# Altium footprint library 3G30A.PcbLib: 1 footprints
Each footprint in its own frame and in the unit in brackets; x right, y up, seen from the top. Pads: shape width x height; smd on the part's side, far side on the other; paste and mask are expansions set on the pad; w line width, h text height; cw(c..) or ccw(c..) is an arc to the next point about the centre after c.
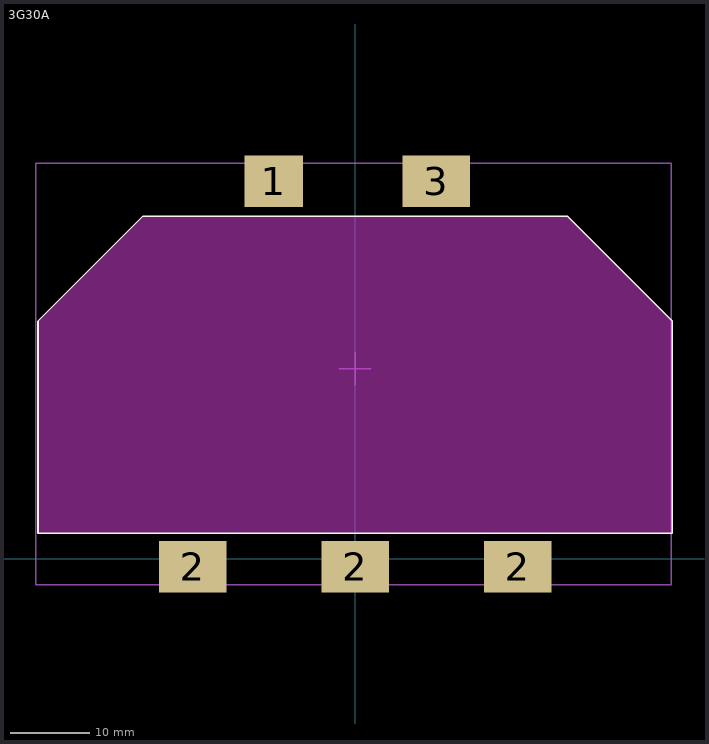
[diagram p0: the footprint, top view; thin cyan lines are the x and y axes]

## 3G30A [mm]
pads (5):
  rect 7.35x6.5 smd: 1(-10.25,47.65)
  rect 8.53x6.5 smd: 2(-20.5,-1) 2(0,-1) 2(20.5,-1) 3(10.25,47.65)
Top Layer keep-out:
  region: -26.75,43.25 -40,30 -40,3.25 40,3.25 40,30 26.75,43.25
Top Overlay:
  lines w0.2: 40,29.7 40,3.25 ; 40,3.25 -40,3.25 -40,30 -26.75,43.25 26.75,43.25 40,30 40,3.25
Mechanical 13:
  lines w0.2: -40.275,-3.25 39.875,-3.25 39.875,49.9 -40.275,49.9 -40.275,-3.25
Mechanical 15:
  lines w0.2: -2,24 2,24 ; 0,22 0,26
3D body "3G30A.STEP": height 0.38, standoff 0, extent -40.275,-3.25 39.875,49.9